# Altium footprint library Basic.PcbLib: 15 footprints
Each footprint in its own frame and in the unit in brackets; x right, y up, seen from the top. Pads: shape width x height; smd on the part's side, far side on the other; paste and mask are expansions set on the pad; w line width, h text height; cw(c..) or ccw(c..) is an arc to the next point about the centre after c.
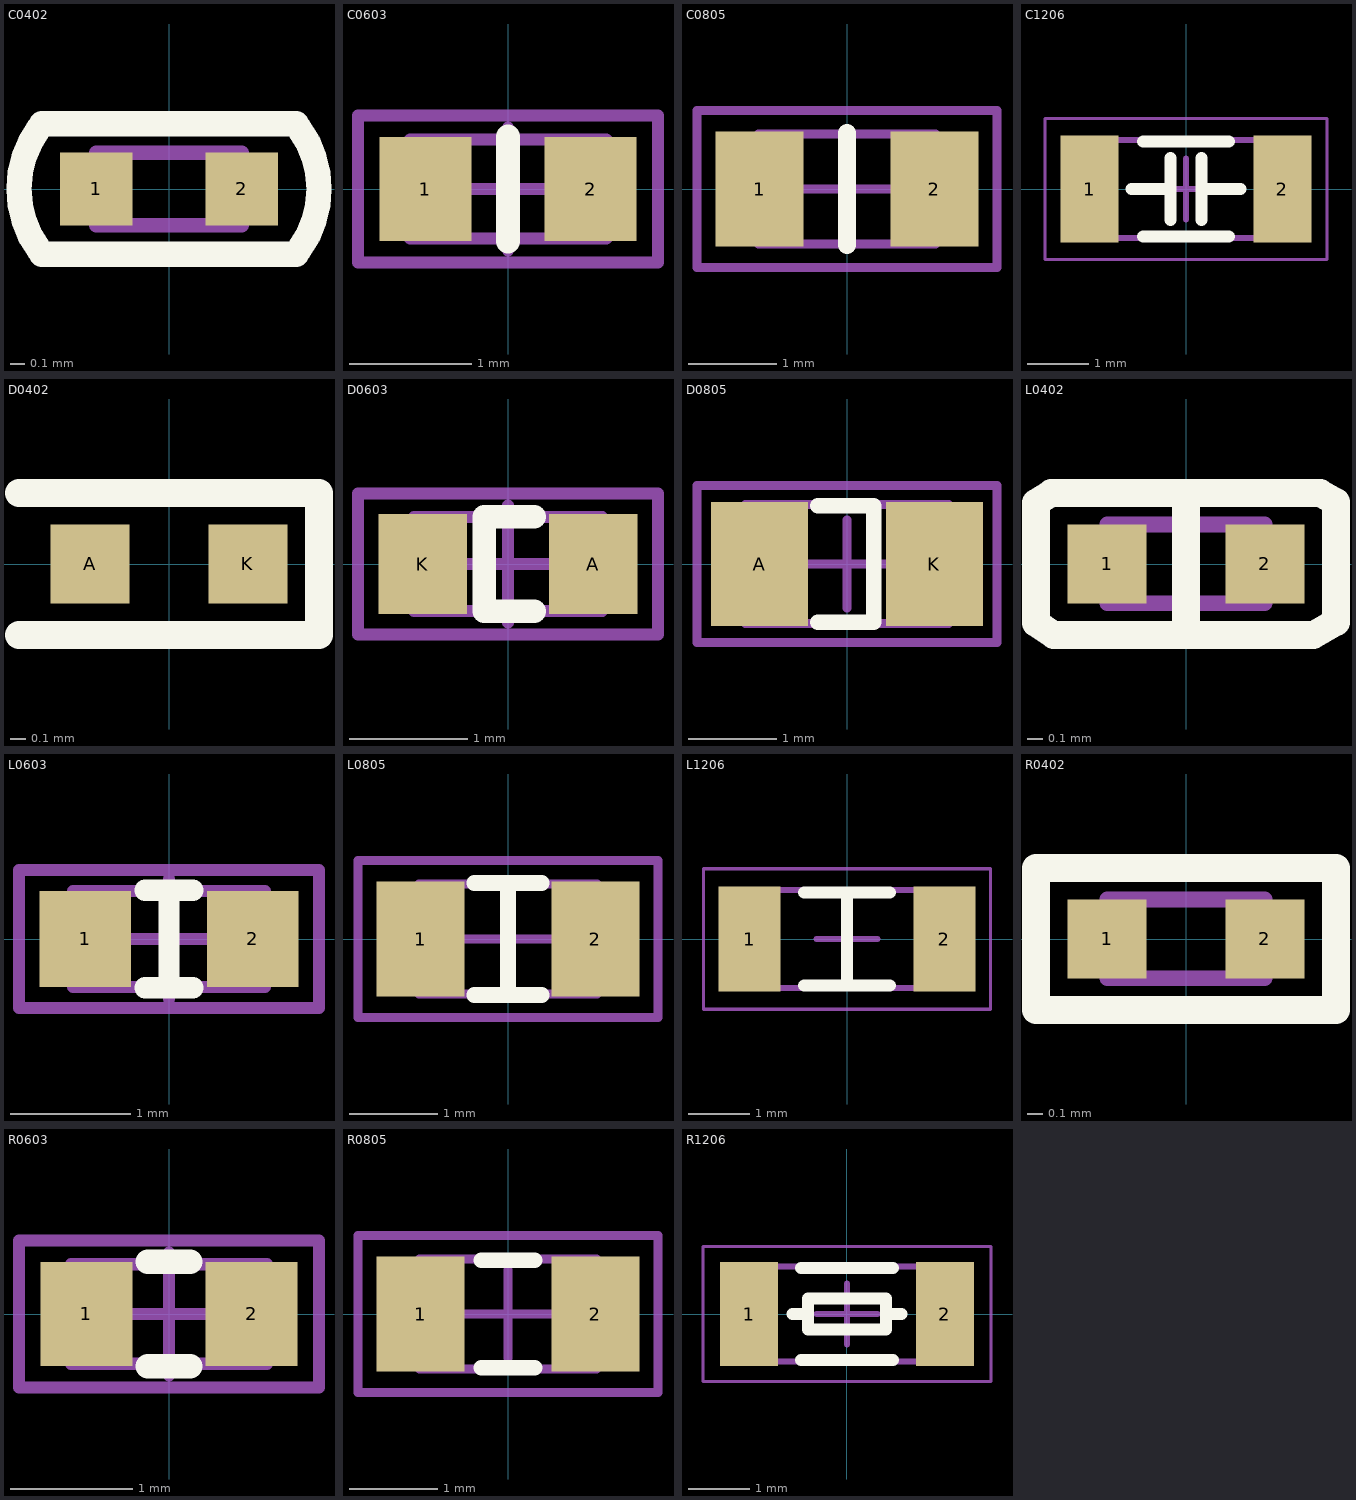
[diagram p0: the footprints below, top view; thin cyan lines are the x and y axes]

## C0402 [mil] "Chip Capacitor, Body 1.0x0.5mm, IPC High Density"
height 51.18
pads (2):
  rect 20x20 smd: 1(-20,0) 2(20,0)
Top Overlay:
  lines w7: -35.75,-16.81 cw(c-13,0) -35.67,16.92 ; -35,-18 35,-18 ; -35,18 35,18 ; 35.75,-16.81 ccw(c13,0) 35.75,16.81
Mechanical 13:
  lines w3.94: -20,-10 -20,10 20,10 20,-10 -20,-10
3D body "0402C.STEP": height 19.68, standoff 0.39, extent -19.64,-9.9 19.73,9.78

## C0603 [mm]
pads (2):
  rect 0.75x0.85 smd: 1(-0.675,0) 2(0.675,0)
Top Overlay:
  lines w0.2: 0,-0.425 0,0.425
Mechanical 13:
  lines w0.1: -0.798,-0.405 -0.798,0.405 0.802,0.405 0.802,-0.405 -0.798,-0.405
Mechanical 15:
  lines w0.1: -0.5,0 0.5,0 ; 0,-0.5 0,0.5 ; -1.225,-0.6 1.225,-0.6 1.225,0.6 -1.225,0.6 -1.225,-0.6
3D body "0603C.STEP": height 0.89, standoff 0.01, extent -0.798,-0.405 0.802,0.405

## C0805 [mm] "Chip Resistor, Body 2.0x1.2mm, IPC Medium Density"
height 0.7
pads (2):
  rect 1x1.3 smd: 1(-0.991,0) 2(0.991,0)
Top Overlay:
  lines w0.2: 0,-0.635 0,0.635
Mechanical 13:
  lines w0.1: -1.003,-0.622 1.003,-0.622 1.003,0.622 -1.003,0.622 -1.003,-0.622
Mechanical 15:
  lines w0.1: -0.5,0 0.5,0 ; 0,-0.5 0,0.5 ; -1.7,-0.889 -1.7,0.889 1.7,0.889 1.7,-0.889 -1.7,-0.889
3D body "0805R.STEP": height 0.53, standoff 0.02, extent -1,-0.62 1.007,0.625

## C1206 [mm] "Chip Capacitor, 2-Leads, Body 3.20x1.60mm, IPC Medium Density"
height 0.55
pads (2):
  rect 0.95x1.75 smd: 1(-1.575,0) 2(1.575,0)
Top Overlay:
  lines w0.2: -0.889,0 -0.254,0 ; -0.7,-0.775 0.7,-0.775 ; -0.7,0.775 0.7,0.775 ; -0.254,-0.508 -0.254,0.508 ; 0.254,-0.508 0.254,0.508 ; 0.254,0 0.889,0
Mechanical 13:
  lines w0.1: -1.6,-0.8 1.6,-0.8 1.6,0.8 -1.6,0.8 -1.6,-0.8
Mechanical 15:
  lines w0.05: -2.3,-1.15 2.3,-1.15 2.3,1.15 -2.3,1.15 -2.3,-1.15
  lines w0.1: -0.5,0 0.5,0 ; 0,-0.5 0,0.5
3D body "1206C.STEP": height 0.95, standoff 0.01, extent -1.6,-0.8 1.6,0.8

## D0402 [mil] "Chip Capacitor, Body 1.0x0.5mm, IPC High Density"
height 51.18
pads (2):
  rect 20x20 smd: A(-20,0) K(20,0)
Top Overlay:
  lines w7: -38,-18 38,-18 38,18 -38,18
3D body "0402D-无极性.STEP": height 10.39, standoff -0.39, extent -19.68,-9.88 19.69,9.89

## D0603 [mm]
pads (2):
  rect 0.75x0.85 smd: A(0.725,0) K(-0.725,0)
Top Overlay:
  lines w0.2: 0.225,-0.4 -0.2,-0.4 -0.2,0.4 0.225,0.4
Mechanical 13:
  lines w0.1: -0.8,-0.4 -0.8,0.4 0.8,0.4 0.8,-0.4 -0.8,-0.4
Mechanical 15:
  lines w0.1: -0.5,0 0.5,0 ; 0,-0.5 0,0.5 ; -1.275,-0.6 1.275,-0.6 1.275,0.6 -1.275,0.6 -1.275,-0.6
3D body "0603D.STEP": height 0.56, standoff 0, extent -0.85,-0.4 0.85,0.4

## D0805 [mm] "Chip Resistor, Body 2.0x1.2mm, IPC Medium Density"
pads (2):
  rect 1.1x1.4 smd: A(-0.991,0) K(0.991,0)
Top Overlay:
  lines w0.178: -0.33,-0.66 0.305,-0.66 0.305,0.66 -0.33,0.66
Mechanical 13:
  lines w0.1: -1.15,-0.675 -1.15,0.675 1.15,0.675 1.15,-0.675 -1.15,-0.675
Mechanical 15:
  lines w0.1: -0.5,0 0.5,0 ; 0,-0.5 0,0.5 ; -1.7,-0.889 -1.7,0.889 1.7,0.889 1.7,-0.889 -1.7,-0.889
3D body "0805D.STEP": height 0.76, standoff 0, extent -1.15,-0.675 1.15,0.675

## L0402 [mil] "电感"
pads (2):
  rect 20x20 smd: 1(-20,0) 2(20,0)
Top Overlay:
  lines w7: 0,-17 0,17 ; -38,-14.95 -38,15.49 -34.1,18 34,18 38,15.71 38,-14.71 32.25,-18 -33.48,-18 -38,-14.95
Mechanical 13:
  lines w3.94: -20,-10 -20,10 20,10 20,-10 -20,-10
3D body "0402I.STEP": height 19.68, standoff 0, extent -19.68,-9.84 19.69,9.85

## L0603 [mm]
pads (2):
  rect 0.762x0.8 smd: 1(-0.698,0) 2(0.699,0)
Top Overlay:
  lines w0.178: -0.2,-0.406 0.2,-0.406 ; -0.2,0.406 0.2,0.406 ; 0,-0.406 0,0.406
Mechanical 13:
  lines w0.1: -0.8,-0.4 0.8,-0.4 0.8,0.4 -0.8,0.4 -0.8,-0.4
Mechanical 15:
  lines w0.1: -0.5,0 0.5,0 ; 0,-0.5 0,0.5 ; -1.25,-0.575 -1.25,0.575 1.25,0.575 1.25,-0.575 -1.25,-0.575
3D body "0603I.SLDPRT": height 1, standoff 0, extent -0.8,-0.4 0.8,0.4

## L0805 [mm] "Chip Resistor, Body 2.0x1.2mm, IPC Medium Density"
height 0.7
pads (2):
  rect 1x1.3 smd: 1(-0.991,0) 2(0.991,0)
Top Overlay:
  lines w0.178: -0.381,-0.635 0,-0.635 ; -0.381,0.635 0,0.635 ; 0.381,-0.635 0,-0.635 ; 0.381,0.635 0,0.635 ; 0,-0.635 0,0.635
Mechanical 13:
  lines w0.1: -1.01,-0.625 1.01,-0.625 1.01,0.625 -1.01,0.625 -1.01,-0.625
Mechanical 15:
  lines w0.1: -0.5,0 0.5,0 ; 0,-0.5 0,0.5 ; -1.7,-0.889 1.7,-0.889 1.7,0.889 -1.7,0.889 -1.7,-0.889
3D body "0805I.STEP": height 1.05, standoff 0, extent -1,-0.625 1,0.625

## L1206 [mm] "Chip Inductor, 2-Leads, Body 3.20x1.60mm, IPC Medium Density"
height 0.55
pads (2):
  rect 1.01x1.72 smd: 1(-1.595,0) 2(1.595,0)
Top Overlay:
  lines w0.2: -0.7,-0.76 0.7,-0.76 ; -0.7,0.76 0.7,0.76 ; 0,-0.76 0,0.76
Mechanical 13:
  lines w0.1: -1.6,-0.8 -1.6,0.8 1.6,0.8 1.6,-0.8 -1.6,-0.8
Mechanical 15:
  lines w0.05: -2.35,-1.15 -2.35,1.15 2.35,1.15 2.35,-1.15 -2.35,-1.15
  lines w0.1: -0.5,0 0.5,0 ; 0,-0.5 0,0.5
3D body: height 0.55, standoff 0, extent -1.1,-0.8 1.1,0.8
3D body: height 0.55, standoff 0, extent -1.6,-0.8 -1.1,0.8
3D body: height 0.55, standoff 0, extent 1.1,-0.8 1.6,0.8

## R0402 [mil] "Chip Capacitor, Body 1.0x0.5mm, IPC High Density"
height 51.18
pads (2):
  rect 20x20 smd: 1(-20,0) 2(20,0)
Top Overlay:
  lines w7: -38,-18 -38,18 38,18 38,-18 -38,-18
Mechanical 13:
  lines w3.94: -20,-10 -20,10 20,10 20,-10 -20,-10
3D body "0402R.STEP": height 13.59, standoff -0.71, extent -19.48,-10.05 19.51,9.95

## R0603 [mm]
pads (2):
  rect 0.75x0.85 smd: 1(-0.675,0) 2(0.675,0)
Top Overlay:
  lines w0.2: -0.175,-0.425 0.175,-0.425 ; -0.175,0.425 0.175,0.425
Mechanical 13:
  lines w0.1: -0.8,-0.406 -0.8,0.406 0.8,0.406 0.8,-0.406 -0.8,-0.406
Mechanical 15:
  lines w0.1: -0.5,0 0.5,0 ; 0,-0.5 0,0.5 ; -1.225,-0.6 1.225,-0.6 1.225,0.6 -1.225,0.6 -1.225,-0.6
3D body "0603R.STEP": height 0.53, standoff 0.02, extent -0.8,-0.406 0.8,0.406

## R0805 [mm] "Chip Resistor, Body 2.0x1.2mm, IPC Medium Density"
height 0.7
pads (2):
  rect 1x1.3 smd: 1(-0.991,0) 2(0.991,0)
Top Overlay:
  lines w0.178: -0.305,-0.61 0.305,-0.61 ; -0.305,0.61 0.305,0.61
Mechanical 13:
  lines w0.1: -1.005,-0.625 1.005,-0.625 1.005,0.625 -1.005,0.625 -1.005,-0.625
Mechanical 15:
  lines w0.1: -0.5,0 0.5,0 ; 0,-0.5 0,0.5 ; -1.7,-0.889 -1.7,0.889 1.7,0.889 1.7,-0.889 -1.7,-0.889
3D body "0805C.STEP": height 0.93, standoff 0.01, extent -1,-0.6 1.01,0.65

## R1206 [mm] "Chip Resistor, 2-Leads, Body 3.20x1.60mm, IPC Medium Density"
height 0.55
pads (2):
  rect 0.95x1.7 smd: 1(-1.6,0) 2(1.6,0)
Top Overlay:
  lines w0.2: -0.889,0 -0.635,0 ; -0.75,-0.75 0.75,-0.75 ; -0.75,0.75 0.75,0.75 ; 0.635,0 0.889,0 ; -0.635,-0.254 -0.635,0.254 0.635,0.254 0.635,-0.254 -0.635,-0.254
Mechanical 13:
  lines w0.1: -1.588,-0.775 1.588,-0.775 1.588,0.775 -1.588,0.775 -1.588,-0.775
Mechanical 15:
  lines w0.05: -2.35,-1.1 -2.35,1.1 2.35,1.1 2.35,-1.1 -2.35,-1.1
  lines w0.1: -0.5,0 0.5,0 ; 0,-0.5 0,0.5
3D body "1206R.STEP": height 0.63, standoff 0.02, extent -1.588,-0.775 1.588,0.775